# Altium schematic symbol library SCH - MCU - STM32 - ST MICROELECTRONICS STM32L562RETX LQFP64.SchLib: 1 symbol
Pins are listed as number, name and electrical type; pins without a type are passive.

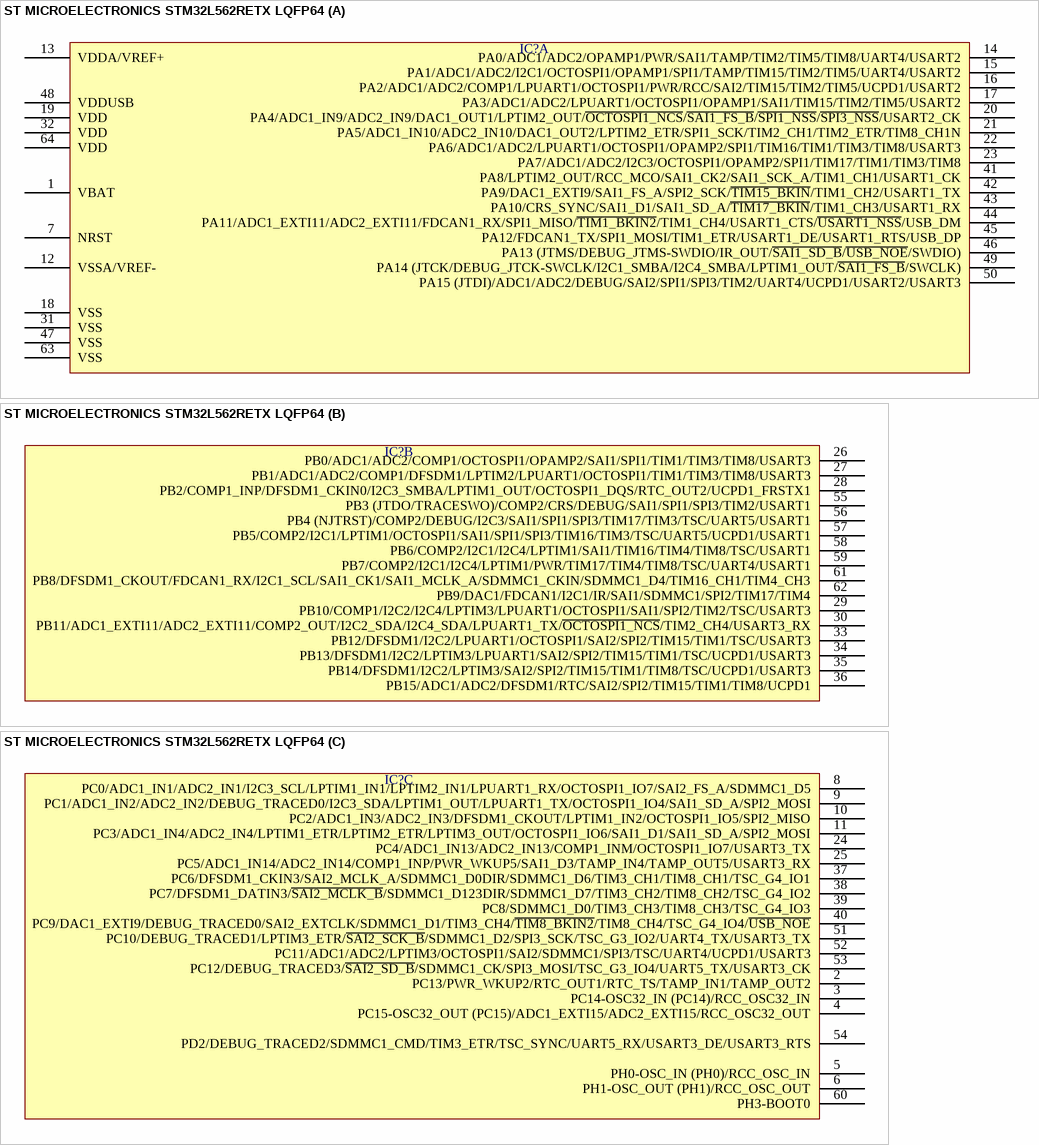
[diagram p0: symbol ST MICROELECTRONICS STM32L562RETX LQFP64]

## ST MICROELECTRONICS STM32L562RETX LQFP64
designator IC?  (value not drawn)
part A pins: 1 VBAT, 7 NRST, 12 VSSA/VREF-, 13 VDDA/VREF+, 14 PA0/ADC1/ADC2/OPAMP1/PWR/SAI1/TAMP/TIM2/TIM5/TIM8/UART4/USART2, 15 PA1/ADC1/ADC2/I2C1/OCTOSPI1/OPAMP1/SPI1/TAMP/TIM15/TIM2/TIM5/UART4/USART2, 16 PA2/ADC1/ADC2/COMP1/LPUART1/OCTOSPI1/PWR/RCC/SAI2/TIM15/TIM2/TIM5/UCPD1/USART2, 17 PA3/ADC1/ADC2/LPUART1/OCTOSPI1/OPAMP1/SAI1/TIM15/TIM2/TIM5/USART2, 18 VSS, 19 VDD, 20 PA4/ADC1_IN9/ADC2_IN9/DAC1_OUT1/LPTIM2_OUT/~{OCTOSPI1_NCS}/~{SAI1_FS_B}/~{SPI1_NSS}/~{SPI3_NSS}/USART2_CK, 21 PA5/ADC1_IN10/ADC2_IN10/DAC1_OUT2/LPTIM2_ETR/SPI1_SCK/TIM2_CH1/TIM2_ETR/TIM8_CH1N, 22 PA6/ADC1/ADC2/LPUART1/OCTOSPI1/OPAMP2/SPI1/TIM16/TIM1/TIM3/TIM8/USART3, 23 PA7/ADC1/ADC2/I2C3/OCTOSPI1/OPAMP2/SPI1/TIM17/TIM1/TIM3/TIM8, 31 VSS, 32 VDD, 41 PA8/LPTIM2_OUT/RCC_MCO/SAI1_CK2/SAI1_SCK_A/TIM1_CH1/USART1_CK, 42 PA9/DAC1_EXTI9/SAI1_FS_A/SPI2_SCK/~{TIM15_BKIN}/TIM1_CH2/USART1_TX, 43 PA10/CRS_SYNC/SAI1_D1/SAI1_SD_A/~{TIM17_BKIN}/TIM1_CH3/USART1_RX, 44 PA11/ADC1_EXTI11/ADC2_EXTI11/FDCAN1_RX/SPI1_MISO/~{TIM1_BKIN2}/TIM1_CH4/USART1_CTS/~{USART1_NSS}/USB_DM, 45 PA12/FDCAN1_TX/SPI1_MOSI/TIM1_ETR/USART1_DE/USART1_RTS/USB_DP, 46 PA13 (JTMS/DEBUG_JTMS-SWDIO/IR_OUT/~{SAI1_SD_B}/~{USB_NOE}/SWDIO), 47 VSS, 48 VDDUSB, 49 PA14 (JTCK/DEBUG_JTCK-SWCLK/I2C1_SMBA/I2C4_SMBA/LPTIM1_OUT/~{SAI1_FS_B}/SWCLK), 50 PA15 (JTDI)/ADC1/ADC2/DEBUG/SAI2/SPI1/SPI3/TIM2/UART4/UCPD1/USART2/USART3, 63 VSS, 64 VDD
part B pins: 26 PB0/ADC1/ADC2/COMP1/OCTOSPI1/OPAMP2/SAI1/SPI1/TIM1/TIM3/TIM8/USART3, 27 PB1/ADC1/ADC2/COMP1/DFSDM1/LPTIM2/LPUART1/OCTOSPI1/TIM1/TIM3/TIM8/USART3, 28 PB2/COMP1_INP/DFSDM1_CKIN0/I2C3_SMBA/LPTIM1_OUT/OCTOSPI1_DQS/RTC_OUT2/UCPD1_FRSTX1, 29 PB10/COMP1/I2C2/I2C4/LPTIM3/LPUART1/OCTOSPI1/SAI1/SPI2/TIM2/TSC/USART3, 30 PB11/ADC1_EXTI11/ADC2_EXTI11/COMP2_OUT/I2C2_SDA/I2C4_SDA/LPUART1_TX/~{OCTOSPI1_NCS}/TIM2_CH4/USART3_RX, 33 PB12/DFSDM1/I2C2/LPUART1/OCTOSPI1/SAI2/SPI2/TIM15/TIM1/TSC/USART3, 34 PB13/DFSDM1/I2C2/LPTIM3/LPUART1/SAI2/SPI2/TIM15/TIM1/TSC/UCPD1/USART3, 35 PB14/DFSDM1/I2C2/LPTIM3/SAI2/SPI2/TIM15/TIM1/TIM8/TSC/UCPD1/USART3, 36 PB15/ADC1/ADC2/DFSDM1/RTC/SAI2/SPI2/TIM15/TIM1/TIM8/UCPD1, 55 PB3 (JTDO/TRACESWO)/COMP2/CRS/DEBUG/SAI1/SPI1/SPI3/TIM2/USART1, 56 PB4 (NJTRST)/COMP2/DEBUG/I2C3/SAI1/SPI1/SPI3/TIM17/TIM3/TSC/UART5/USART1, 57 PB5/COMP2/I2C1/LPTIM1/OCTOSPI1/SAI1/SPI1/SPI3/TIM16/TIM3/TSC/UART5/UCPD1/USART1, 58 PB6/COMP2/I2C1/I2C4/LPTIM1/SAI1/TIM16/TIM4/TIM8/TSC/USART1, 59 PB7/COMP2/I2C1/I2C4/LPTIM1/PWR/TIM17/TIM4/TIM8/TSC/UART4/USART1, 61 PB8/DFSDM1_CKOUT/FDCAN1_RX/I2C1_SCL/SAI1_CK1/SAI1_MCLK_A/SDMMC1_CKIN/SDMMC1_D4/TIM16_CH1/TIM4_CH3, 62 PB9/DAC1/FDCAN1/I2C1/IR/SAI1/SDMMC1/SPI2/TIM17/TIM4
part C pins: 2 PC13/PWR_WKUP2/RTC_OUT1/RTC_TS/TAMP_IN1/TAMP_OUT2, 3 PC14-OSC32_IN (PC14)/RCC_OSC32_IN, 4 PC15-OSC32_OUT (PC15)/ADC1_EXTI15/ADC2_EXTI15/RCC_OSC32_OUT, 5 PH0-OSC_IN (PH0)/RCC_OSC_IN, 6 PH1-OSC_OUT (PH1)/RCC_OSC_OUT, 8 PC0/ADC1_IN1/ADC2_IN1/I2C3_SCL/LPTIM1_IN1/LPTIM2_IN1/LPUART1_RX/OCTOSPI1_IO7/SAI2_FS_A/SDMMC1_D5, 9 PC1/ADC1_IN2/ADC2_IN2/DEBUG_TRACED0/I2C3_SDA/LPTIM1_OUT/LPUART1_TX/OCTOSPI1_IO4/SAI1_SD_A/SPI2_MOSI, 10 PC2/ADC1_IN3/ADC2_IN3/DFSDM1_CKOUT/LPTIM1_IN2/OCTOSPI1_IO5/SPI2_MISO, 11 PC3/ADC1_IN4/ADC2_IN4/LPTIM1_ETR/LPTIM2_ETR/LPTIM3_OUT/OCTOSPI1_IO6/SAI1_D1/SAI1_SD_A/SPI2_MOSI, 24 PC4/ADC1_IN13/ADC2_IN13/COMP1_INM/OCTOSPI1_IO7/USART3_TX, 25 PC5/ADC1_IN14/ADC2_IN14/COMP1_INP/PWR_WKUP5/SAI1_D3/TAMP_IN4/TAMP_OUT5/USART3_RX, 37 PC6/DFSDM1_CKIN3/SAI2_MCLK_A/SDMMC1_D0DIR/SDMMC1_D6/TIM3_CH1/TIM8_CH1/TSC_G4_IO1, 38 PC7/DFSDM1_DATIN3/~{SAI2_MCLK_B}/SDMMC1_D123DIR/SDMMC1_D7/TIM3_CH2/TIM8_CH2/TSC_G4_IO2, 39 PC8/SDMMC1_D0/TIM3_CH3/TIM8_CH3/TSC_G4_IO3, 40 PC9/DAC1_EXTI9/DEBUG_TRACED0/SAI2_EXTCLK/SDMMC1_D1/TIM3_CH4/~{TIM8_BKIN2}/TIM8_CH4/TSC_G4_IO4/~{USB_NOE}, 51 PC10/DEBUG_TRACED1/LPTIM3_ETR/~{SAI2_SCK_B}/SDMMC1_D2/SPI3_SCK/TSC_G3_IO2/UART4_TX/USART3_TX, 52 PC11/ADC1/ADC2/LPTIM3/OCTOSPI1/SAI2/SDMMC1/SPI3/TSC/UART4/UCPD1/USART3, 53 PC12/DEBUG_TRACED3/~{SAI2_SD_B}/SDMMC1_CK/SPI3_MOSI/TSC_G3_IO4/UART5_TX/USART3_CK, 54 PD2/DEBUG_TRACED2/SDMMC1_CMD/TIM3_ETR/TSC_SYNC/UART5_RX/USART3_DE/USART3_RTS, 60 PH3-BOOT0